# EAGLE library part LTC6993CS6-1#TRMPBF (library ruark2)
Fixed Pulse Generator Monostable Multivibrator 11ns TSOT-23-6
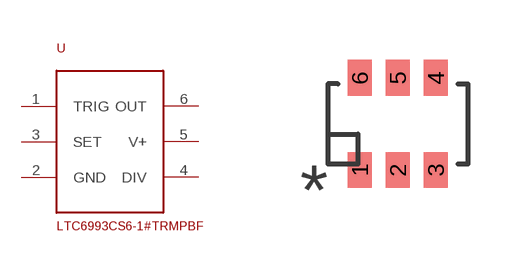
[diagram p21: symbol with the pads of SOT23-6; footprint SOT23-6]

Designator prefix U

## LTC6993CS6-1#TRMPBF (PARTNO: LTC6993CS6-1#TRMPBFCT-ND)  [SOT23-6]
1  TRIG
2  GND
3  SET
4  DIV
5  V+
6  OUT

## Footprint SOT23-6 (pad centres in mm)
smd 0.6 x 0.9: 1 -0.95,-1.15; 2 0,-1.15; 3 0.95,-1.15; 4 0.95,1.15; 5 0,1.15; 6 -0.95,1.15